# Altium footprint library TSSOP.PCBLIB: 3 footprints
Each footprint in its own frame and in the unit in brackets; x right, y up, seen from the top. Pads: shape width x height; smd on the part's side, far side on the other; paste and mask are expansions set on the pad; w line width, h text height; cw(c..) or ccw(c..) is an arc to the next point about the centre after c.
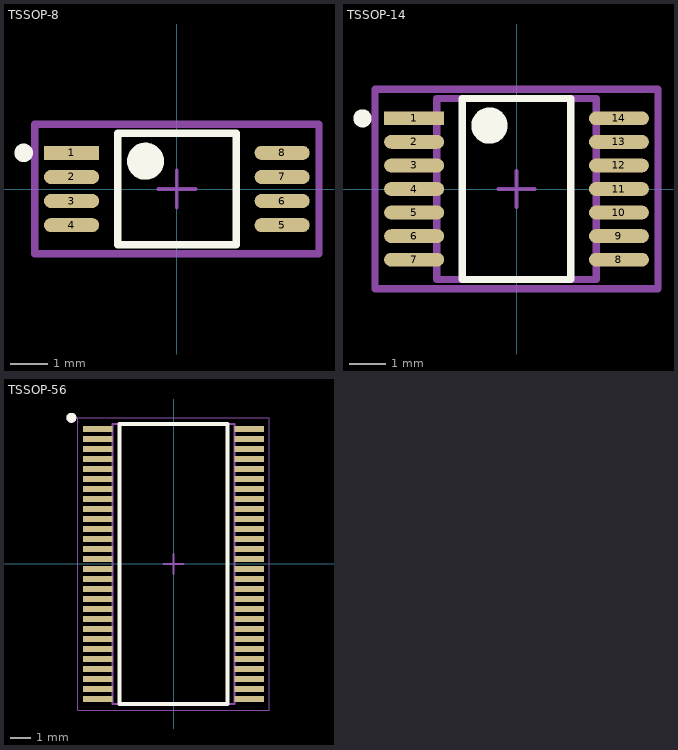
[diagram p0: the footprints below, top view; thin cyan lines are the x and y axes]

## TSSOP-8 [mm]
pads (8):
  rect 1.488x0.381 smd paste+0 mask+0: 1(-2.841,0.975)
  rrect100% 1.488x0.381 smd paste+0 mask+0: 2(-2.841,0.325) 3(-2.841,-0.325) 4(-2.841,-0.975) 5(2.841,-0.975) 6(2.841,-0.325) 7(2.841,0.325) 8(2.841,0.975)
Top Overlay:
  circle w0.5: c-0.847,0.75 r0.25
  circle w0.25: c-4.135,0.975 r0.125
  lines w0.2: -1.597,-1.5 1.597,-1.5 1.597,1.5 -1.597,1.5 -1.597,-1.5
Top Assembly:
  lines w0.2: -3.835,-1.75 3.835,-1.75 3.835,1.75 -3.835,1.75 -3.835,-1.75
Top Courtyard:
  lines w0.2: -3.835,-1.75 3.835,-1.75 3.835,1.75 -3.835,1.75 -3.835,-1.75
Top Designator:
  text ".Designator" at 0,0.188 h1
Top Component Center:
  lines w0.1: -0.5,0 0.5,0 ; 0,-0.5 0,0.5
3D body "IC_Microchip_24FC08T-E-ST_eec.STEP": height 0.25, standoff 0, extent -3.835,-1.75 3.835,1.75

## TSSOP-14 [mm]
pads (14):
  rect 1.655x0.381 smd paste+0 mask+0: 1(-2.825,1.95)
  rrect100% 1.655x0.381 smd paste+0 mask+0: 2(-2.825,1.3) 3(-2.825,0.65) 4(-2.825,0) 5(-2.825,-0.65) 6(-2.825,-1.3) 7(-2.825,-1.95) 8(2.825,-1.95) 9(2.825,-1.3) 10(2.825,-0.65) 11(2.825,0) 12(2.825,0.65) 13(2.825,1.3) 14(2.825,1.95)
Top Overlay:
  circle w0.5: c-0.748,1.75 r0.25
  circle w0.25: c-4.25,1.95 r0.125
  lines w0.2: -1.498,-2.5 1.498,-2.5 1.498,2.5 -1.498,2.5 -1.498,-2.5
Top Assembly:
  lines w0.2: -2.2,-2.5 -2.2,2.5 2.2,2.5 2.2,-2.5 -2.2,-2.5
Top Courtyard:
  lines w0.2: -3.903,-2.75 3.903,-2.75 3.903,2.75 -3.903,2.75 -3.903,-2.75
Top Designator:
  text ".Designator" at 0,0.188 h1
Top Component Center:
  lines w0.1: -0.5,0 0.5,0 ; 0,-0.5 0,0.5
3D body "IC_Texas_Instruments_BQ34110PWR_eec.STEP": height 0.25, standoff 0, extent -3.903,-2.75 3.903,2.75

## TSSOP-56 [mm]
pads (56):
  rect 1.475x0.3 smd: 1(-3.788,6.75) 2(-3.788,6.25) 3(-3.788,5.75) 4(-3.788,5.25) 5(-3.788,4.75) 6(-3.788,4.25) 7(-3.788,3.75) 8(-3.788,3.25) 9(-3.788,2.75) 10(-3.788,2.25) 11(-3.788,1.75) 12(-3.788,1.25) 13(-3.788,0.75) 14(-3.788,0.25) 15(-3.788,-0.25) 16(-3.788,-0.75) 17(-3.788,-1.25) 18(-3.788,-1.75) 19(-3.788,-2.25) 20(-3.788,-2.75) 21(-3.788,-3.25) 22(-3.788,-3.75) 23(-3.788,-4.25) 24(-3.788,-4.75) 25(-3.788,-5.25) 26(-3.788,-5.75) 27(-3.788,-6.25) 28(-3.788,-6.75) 29(3.788,-6.75) 30(3.788,-6.25) 31(3.788,-5.75) 32(3.788,-5.25) 33(3.788,-4.75) 34(3.788,-4.25) 35(3.788,-3.75) 36(3.788,-3.25) 37(3.788,-2.75) 38(3.788,-2.25) 39(3.788,-1.75) 40(3.788,-1.25) 41(3.788,-0.75) 42(3.788,-0.25) 43(3.788,0.25) 44(3.788,0.75) 45(3.788,1.25) 46(3.788,1.75) 47(3.788,2.25) 48(3.788,2.75) 49(3.788,3.25) 50(3.788,3.75) 51(3.788,4.25) 52(3.788,4.75) 53(3.788,5.25) 54(3.788,5.75) 55(3.788,6.25) 56(3.788,6.75)
Top Overlay:
  circle w0.25: c-5.1,7.3 r0.125
  lines w0.2: -2.7,-7 -2.7,7 2.7,7 2.7,-7 -2.7,-7
Top Assembly:
  circle w0.25: c-5.1,7.3 r0.125
  lines w0.1: -3.05,-7 -3.05,7 3.05,7 3.05,-7 -3.05,-7
Top Courtyard:
  lines w0.05: -4.775,-7.3 -4.775,7.3 4.775,7.3 4.775,-7.3 -4.775,-7.3
Top Designator:
  text ".Designator" at -2.2,0.488 h1
Top Component Center:
  lines w0.1: -0.5,0 0.5,0 ; 0,-0.5 0,0.5
3D body "PCA9505DGG,118.stp": height 1, standoff 0, extent -4.06,-7 4.061,7